# Altium schematic symbol library S2B-PH-SM4-TB__LF__SN_.SchLib: 1 symbol
Pins are listed as number, name and electrical type; pins without a type are passive.

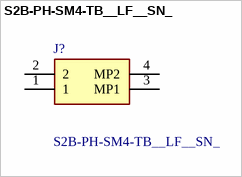
[diagram p0: symbol S2B-PH-SM4-TB__LF__SN_]

## S2B-PH-SM4-TB__LF__SN_
designator J?
Connector Header Surface Mount, Right Angle 2 position 0.079" (2.00mm); Manufacturer_Name: JST (JAPAN SOLDERLESS TERMINALS); Manufacturer_Part_Number: S2B-PH-SM4-TB (LF)(SN); Geometry.Height: 5.5mm; Mouser Part Number: *; Mouser Price/Stock: *; Arrow Part Number: *; Arrow Price/Stock: *; Datasheet Link: https://www.jst-mfg.com/product/pdf/eng/ePH.pdf
footprint S2BPHSM4TBLFSN
pins: 1, 2, 3 MP1, 4 MP2